# Altium integrated library HTLinn_BJT.IntLib: 23 symbols
Pins are listed as number, name and electrical type; pins without a type are passive.

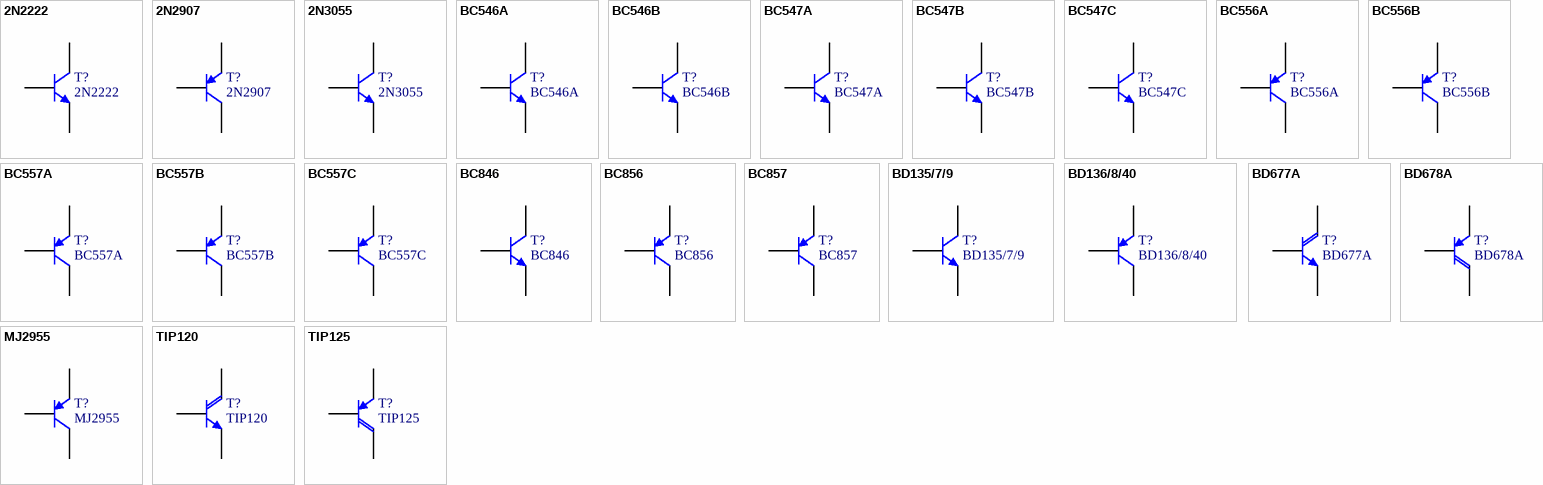
[diagram p0: symbols 2N2222 to TIP125]

## 2N2222
designator T?
NPN General-purpose Transistor; SimulationModellSource: Motorola Discrete BJT; Usage: only permitted for non-commercial purposes at HTL I Innsbruck; Published: 21-Feb-2011; LatestRevisionDate: 21-Feb-2011
simulation model 2N2222 (NPN)
signal-integrity model 2N2222 (NPN)
footprint TO-18-2 (Can; 3 Leads; Pin Circle Dia. 2.54 mm; Lead Dia. 0.48 mm (max)); pin to pad 1>3 3>1
footprint TO-18-1 (Can; 3 Leads; Pin Circle Dia. 2.54 mm; Lead Dia. 0.48 mm (max))
pins: 1 E, 2 B, 3 C

## 2N2907
designator T?
PNP General-purpose Transistor; Usage: only permitted for non-commercial purposes at HTL I Innsbruck; SimulationModellSource: Motorola Discrete BJT; LatestRevisionDate: 21-Feb-2011; Published: 21-Feb-2011
simulation model 2N2907 (PNP)
signal-integrity model 2N2907 (PNP)
footprint TO-18-1 (Can; 3 Leads; Pin Circle Dia. 2.54 mm; Lead Dia. 0.48 mm (max)); pin to pad 1>3 3>1
footprint TO-18-2 (Can; 3 Leads; Pin Circle Dia. 2.54 mm; Lead Dia. 0.48 mm (max)); pin to pad 1>3 3>1
pins: 1 E, 2 B, 3 C

## 2N3055
designator T?
NPN Silicon Power Transistor; SimulationModellSource: ST Discrete BJT; Usage: only permitted for non-commercial purposes at HTL I Innsbruck; Published: 21-Feb-2011; LatestRevisionDate: 31-Oct-2012
simulation model 2N3055 (NPN)
signal-integrity model 2N3055 (NPN)
footprint TO-3 (Oval Flange Mount with (2) Offset Leads; Pin Spacing 10.92 mm; Lead Dia. 1.6 mm (max))
pins: 1 E, 2 B, 3 C

## BC546A
designator T?
NPN General-purpose Transistor; SimulationModellSource: Philips Discrete BJT - Low Power; Usage: only permitted for non-commercial purposes at HTL I Innsbruck; Published: 21-Feb-2011; LatestRevisionDate: 31-Oct-2012
simulation model QBC546A (NPN)
signal-integrity model BC546A
footprint TO-92A-2 (TO, Flat Index; 3 In-Line, Axial Leads; Body Dia. 4.5mm; Leads 0.51 x 0.48 mm (max)); pin to pad 1>3 3>1
footprint TO-92A-3 (TO, Flat Index; 3 In-Line, Axial Leads; Body Dia. 4.5mm; Leads 0.51 x 0.48 mm (max)); pin to pad 1>3 3>1
footprint TO-92A-1 (TO, Flat Index; 3 In-Line, Axial Leads; Body Dia. 4.5mm; Leads 0.51 x 0.48 mm (max)); pin to pad 1>3 3>1
pins: 1 E, 2 B, 3 C

## BC546B
designator T?
NPN General-purpose Transistor; SimulationModellSource: Philips Discrete BJT - Low Power; Usage: only permitted for non-commercial purposes at HTL I Innsbruck; Published: 21-Feb-2011; LatestRevisionDate: 31-Oct-2012
simulation model QBC546B (NPN)
signal-integrity model BC546B
footprint TO-92A-2 (TO, Flat Index; 3 In-Line, Axial Leads; Body Dia. 4.5mm; Leads 0.51 x 0.48 mm (max)); pin to pad 1>3 3>1
footprint TO-92A-3 (TO, Flat Index; 3 In-Line, Axial Leads; Body Dia. 4.5mm; Leads 0.51 x 0.48 mm (max)); pin to pad 1>3 3>1
footprint TO-92A-1 (TO, Flat Index; 3 In-Line, Axial Leads; Body Dia. 4.5mm; Leads 0.51 x 0.48 mm (max)); pin to pad 1>3 3>1
pins: 1 E, 2 B, 3 C

## BC547A
designator T?
NPN General-purpose Transistor; SimulationModellSource: Philips Discrete BJT - Low Power; Usage: only permitted for non-commercial purposes at HTL I Innsbruck; Published: 21-Feb-2011; LatestRevisionDate: 31-Oct-2012
simulation model QBC547A (NPN)
signal-integrity model BC547A
footprint TO-92A-2 (TO, Flat Index; 3 In-Line, Axial Leads; Body Dia. 4.5mm; Leads 0.51 x 0.48 mm (max)); pin to pad 1>3 3>1
footprint TO-92A-3 (TO, Flat Index; 3 In-Line, Axial Leads; Body Dia. 4.5mm; Leads 0.51 x 0.48 mm (max)); pin to pad 1>3 3>1
footprint TO-92A-1 (TO, Flat Index; 3 In-Line, Axial Leads; Body Dia. 4.5mm; Leads 0.51 x 0.48 mm (max)); pin to pad 1>3 3>1
pins: 1 E, 2 B, 3 C

## BC547B
designator T?
NPN General-purpose Transistor; SimulationModellSource: Philips Discrete BJT - Low Power; Usage: only permitted for non-commercial purposes at HTL I Innsbruck; Published: 21-Feb-2011; LatestRevisionDate: 31-Oct-2012
simulation model QBC547B (NPN)
signal-integrity model BC547B
footprint TO-92A-2 (TO, Flat Index; 3 In-Line, Axial Leads; Body Dia. 4.5mm; Leads 0.51 x 0.48 mm (max)); pin to pad 1>3 3>1
footprint TO-92A-3 (TO, Flat Index; 3 In-Line, Axial Leads; Body Dia. 4.5mm; Leads 0.51 x 0.48 mm (max)); pin to pad 1>3 3>1
footprint TO-92A-1 (TO, Flat Index; 3 In-Line, Axial Leads; Body Dia. 4.5mm; Leads 0.51 x 0.48 mm (max)); pin to pad 1>3 3>1
pins: 1 E, 2 B, 3 C

## BC547C
designator T?
NPN General-purpose Transistor; SimulationModellSource: Philips Discrete BJT - Low Power; Usage: only permitted for non-commercial purposes at HTL I Innsbruck; Published: 21-Feb-2011; LatestRevisionDate: 31-Oct-2012
simulation model QBC547C (NPN)
signal-integrity model BC547C
footprint TO-92A-2 (TO, Flat Index; 3 In-Line, Axial Leads; Body Dia. 4.5mm; Leads 0.51 x 0.48 mm (max)); pin to pad 1>3 3>1
footprint TO-92A-3 (TO, Flat Index; 3 In-Line, Axial Leads; Body Dia. 4.5mm; Leads 0.51 x 0.48 mm (max)); pin to pad 1>3 3>1
footprint TO-92A-1 (TO, Flat Index; 3 In-Line, Axial Leads; Body Dia. 4.5mm; Leads 0.51 x 0.48 mm (max)); pin to pad 1>3 3>1
pins: 1 E, 2 B, 3 C

## BC556A
designator T?
PNP General-purpose Transistor; Usage: only permitted for non-commercial purposes at HTL I Innsbruck; SimulationModellSource: Philips Discrete BJT - Low Power; Published: 21-Feb-2011; LatestRevisionDate: 31-Oct-2012
simulation model QBC556A (PNP)
signal-integrity model BC556A
footprint TO-92A-1 (TO, Flat Index; 3 In-Line, Axial Leads; Body Dia. 4.5mm; Leads 0.51 x 0.48 mm (max)); pin to pad 1>3 3>1
footprint TO-92A-2 (TO, Flat Index; 3 In-Line, Axial Leads; Body Dia. 4.5mm; Leads 0.51 x 0.48 mm (max)); pin to pad 1>3 3>1
footprint TO-92A-3 (TO, Flat Index; 3 In-Line, Axial Leads; Body Dia. 4.5mm; Leads 0.51 x 0.48 mm (max)); pin to pad 1>3 3>1
pins: 1 E, 2 B, 3 C

## BC556B
designator T?
PNP General-purpose Transistor; Usage: only permitted for non-commercial purposes at HTL I Innsbruck; SimulationModellSource: Philips Discrete BJT - Low Power; Published: 21-Feb-2011; LatestRevisionDate: 31-Oct-2012
simulation model QBC556B (PNP)
signal-integrity model BC556B
footprint TO-92A-1 (TO, Flat Index; 3 In-Line, Axial Leads; Body Dia. 4.5mm; Leads 0.51 x 0.48 mm (max)); pin to pad 1>3 3>1
footprint TO-92A-2 (TO, Flat Index; 3 In-Line, Axial Leads; Body Dia. 4.5mm; Leads 0.51 x 0.48 mm (max)); pin to pad 1>3 3>1
footprint TO-92A-3 (TO, Flat Index; 3 In-Line, Axial Leads; Body Dia. 4.5mm; Leads 0.51 x 0.48 mm (max)); pin to pad 1>3 3>1
pins: 1 E, 2 B, 3 C

## BC557A
designator T?
PNP General-purpose Transistor; Usage: only permitted for non-commercial purposes at HTL I Innsbruck; SimulationModellSource: Philips Discrete BJT - Low Power; Published: 21-Feb-2011; LatestRevisionDate: 31-Oct-2012
simulation model QBC557A (PNP)
signal-integrity model BC557A
footprint TO-92A-1 (TO, Flat Index; 3 In-Line, Axial Leads; Body Dia. 4.5mm; Leads 0.51 x 0.48 mm (max)); pin to pad 1>3 3>1
footprint TO-92A-2 (TO, Flat Index; 3 In-Line, Axial Leads; Body Dia. 4.5mm; Leads 0.51 x 0.48 mm (max)); pin to pad 1>3 3>1
footprint TO-92A-3 (TO, Flat Index; 3 In-Line, Axial Leads; Body Dia. 4.5mm; Leads 0.51 x 0.48 mm (max)); pin to pad 1>3 3>1
pins: 1 E, 2 B, 3 C

## BC557B
designator T?
PNP General-purpose Transistor; Usage: only permitted for non-commercial purposes at HTL I Innsbruck; SimulationModellSource: Philips Discrete BJT - Low Power; Published: 21-Feb-2011; LatestRevisionDate: 31-Oct-2012
simulation model QBC557B (PNP)
signal-integrity model BC557B
footprint TO-92A-1 (TO, Flat Index; 3 In-Line, Axial Leads; Body Dia. 4.5mm; Leads 0.51 x 0.48 mm (max)); pin to pad 1>3 3>1
footprint TO-92A-2 (TO, Flat Index; 3 In-Line, Axial Leads; Body Dia. 4.5mm; Leads 0.51 x 0.48 mm (max)); pin to pad 1>3 3>1
footprint TO-92A-3 (TO, Flat Index; 3 In-Line, Axial Leads; Body Dia. 4.5mm; Leads 0.51 x 0.48 mm (max)); pin to pad 1>3 3>1
pins: 1 E, 2 B, 3 C

## BC557C
designator T?
PNP General-purpose Transistor; Usage: only permitted for non-commercial purposes at HTL I Innsbruck; SimulationModellSource: Philips Discrete BJT - Low Power; Published: 21-Feb-2011; LatestRevisionDate: 31-Oct-2012
simulation model QBC557C (PNP)
signal-integrity model BC557C
footprint TO-92A-1 (TO, Flat Index; 3 In-Line, Axial Leads; Body Dia. 4.5mm; Leads 0.51 x 0.48 mm (max)); pin to pad 1>3 3>1
footprint TO-92A-2 (TO, Flat Index; 3 In-Line, Axial Leads; Body Dia. 4.5mm; Leads 0.51 x 0.48 mm (max)); pin to pad 1>3 3>1
footprint TO-92A-3 (TO, Flat Index; 3 In-Line, Axial Leads; Body Dia. 4.5mm; Leads 0.51 x 0.48 mm (max)); pin to pad 1>3 3>1
pins: 1 E, 2 B, 3 C

## BC846
designator T?
NPN General-purpose Transistor; SimulationModellSource: Fairchild Semiconductor; Usage: only permitted for non-commercial purposes at HTL I Innsbruck; Published: 09-Jan-2017; LatestRevisionDate: 06-Jan-2022
signal-integrity model BC846
footprint SOT-23 (SOT23, 3-Leads, Body 2.9x1.3mm, Pitch 0.95mm, Lead Span 2.3mm, IPC Low Density); pin to pad 1>2 2>1
simulation model BC846 (Power Bipolar Transistor Electrical Parameters)
pins: 1 E, 2 B, 3 C

## BC856
designator T?
PNP General-purpose Transistor; Usage: only permitted for non-commercial purposes at HTL I Innsbruck; SimulationModellSource: Philips; Published: 29-Mar-2017; LatestRevisionDate: 06_Jan-2022
signal-integrity model BC856
footprint SOT-23 (SOT23, 3-Leads, Body 2.9x1.3mm, Pitch 0.95mm, Lead Span 2.3mm, IPC Low Density); pin to pad 1>2 2>1
simulation model QBC856 (Model Description)
pins: 1 E, 2 B, 3 C

## BC857
designator T?
PNP General-purpose Transistor; Usage: only permitted for non-commercial purposes at HTL I Innsbruck; SimulationModellSource: Philips; Published: 29-Mar-2017; LatestRevisionDate: 06_Jan-2022
signal-integrity model BC857
footprint SOT-23 (SOT23, 3-Leads, Body 2.9x1.3mm, Pitch 0.95mm, Lead Span 2.3mm, IPC Low Density); pin to pad 1>2 2>1
simulation model QBC857 (Model Description)
pins: 1 E, 2 B, 3 C

## BD135/7/9
designator T?
NPN Silicon Power Transistor; SimulationModellSource: FAIRCHILD Webpage; Usage: only permitted for non-commercial purposes at HTL I Innsbruck; Published: 21-Feb-2011; LatestRevisionDate: 27-Jan-2015
simulation model BD135_137_139 (NPN)
signal-integrity model BD139 (NPN)
footprint TO-126 (TO-126 vertical); pin to pad 2>3 3>2
footprint TO-126 - HORIZONTAL (TO-126 horizontal); pin to pad 2>3 3>2
footprint TO-126 - BD135_137_139 (TO-126 vertical)
pins: 1 E, 2 B, 3 C

## BD136/8/40
designator T?
PNP Silicon Power Transistor; SimulationModellSource: FAIRCHILD Webpage; Usage: only permitted for non-commercial purposes at HTL I Innsbruck; Published: 21-Feb-2011; LatestRevisionDate: 27-Jan-2015
simulation model BD136_138_140 (PNP)
signal-integrity model BD140 (PNP)
footprint TO-126 (TO-126 vertical); pin to pad 2>3 3>2
footprint TO-126 - HORIZONTAL (TO-126 horizontal); pin to pad 2>3 3>2
pins: 1 E, 2 B, 3 C

## BD677A
designator T?
NPN Silicon Power Darlington Transistor; SimulationModellSource: Prof. Otto Jahn - HTL Innsbruck; Usage: only permitted for non-commercial purposes at HTL I Innsbruck; Published: 21-Feb-2011; LatestRevisionDate: 21-Feb-2011
signal-integrity model BD677A (NPN)
footprint TO-225 - HORIZONTAL (TO-225 horizontal); pin to pad 2>3 3>2
simulation model BD677A (NPN)
footprint TO-225; pin to pad 2>3 3>2
pins: 1 E, 2 B, 3 C

## BD678A
designator T?
PNP Silicon Power Darlington Transistor; SimulationModellSource: Prof. Otto Jahn - HTL Innsbruck; Usage: only permitted for non-commercial purposes at HTL I Innsbruck; Published: 21-Feb-2011; LatestRevisionDate: 21-Feb-2011
simulation model BD678A (PNP)
signal-integrity model BD678A (PNP)
footprint TO-225 - HORIZONTAL (TO-225 horizontal); pin to pad 2>3 3>2
footprint TO-225; pin to pad 2>3 3>2
pins: 1 E, 2 B, 3 C

## MJ2955
designator T?
PNP Silicon Power Transistor; Usage: only permitted for non-commercial purposes at HTL I Innsbruck; SimulationModellSource: Prof. Felix Klingler; Published: 21-Feb-2011; LatestRevisionDate: 06-Jan-2022
signal-integrity model MJ2955 (PNP)
footprint TO-3 (Oval Flange Mount with (2) Offset Leads; Pin Spacing 10.92 mm; Lead Dia. 1.6 mm (max))
simulation model MJE2955
pins: 1 E, 2 B, 3 C

## TIP120
designator T?
NPN Silicon Power Darlington Transistor; SimulationModellSource: Prof. Otto Jahn - HTL Innsbruck; Usage: only permitted for non-commercial purposes at HTL I Innsbruck; Published: 21-Feb-2011; LatestRevisionDate: 31-Oct-2012
signal-integrity model TIP120 (NPN)
footprint TO-220 (TO, Thru-Hole, Vertical, Heatsink Mounted; 3 In-Line Leads; Pitch 2.54 mm); pin to pad 1>3 2>1 3>2
simulation model TIP120 (NPN)
footprint TO-220AB - Horizontal (TO, Thru-Hole, Horizontal, Heatsink Mounted; 3 In-Line Leads; Pitch 2.54 mm); pin to pad 1>3 2>1 3>2
pins: 1 E, 2 B, 3 C

## TIP125
designator T?
PNP Silicon Power Darlington Transistor; SimulationModellSource: Prof. Otto Jahn - HTL Innsbruck; Usage: only permitted for non-commercial purposes at HTL I Innsbruck; Published: 21-Feb-2011; LatestRevisionDate: 31-Oct-2012
simulation model TIP125 (PNP)
signal-integrity model TIP125 (PNP)
footprint TO-220 (TO, Thru-Hole, Vertical, Heatsink Mounted; 3 In-Line Leads; Pitch 2.54 mm); pin to pad 1>3 2>1 3>2
footprint TO-220AB - Horizontal (TO, Thru-Hole, Horizontal, Heatsink Mounted; 3 In-Line Leads; Pitch 2.54 mm); pin to pad 1>3 2>1 3>2
pins: 1 E, 2 B, 3 C